# Altium footprint library 电容.PcbLib: 19 footprints (part 2 of 2)
Each footprint in its own frame and in the unit in brackets; x right, y up, seen from the top. Pads: shape width x height; smd on the part's side, far side on the other; paste and mask are expansions set on the pad; w line width, h text height; cw(c..) or ccw(c..) is an arc to the next point about the centre after c.
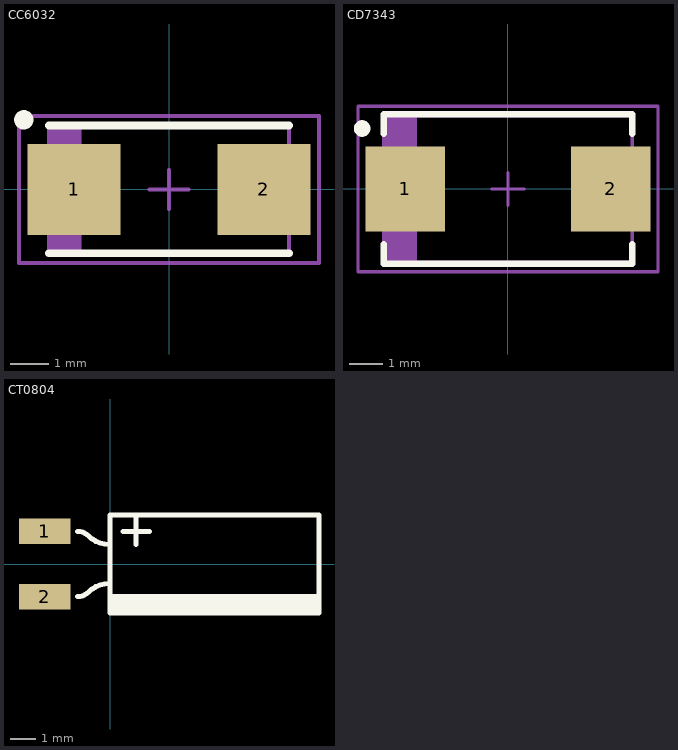
[diagram p1: the footprints below, top view; thin cyan lines are the x and y axes]

## CC6032 [mm] "Molded Capacitor, 2-Leads, Body 6.1x3.3mm, IPC Medium Density"
height 2.8
pads (2):
  rect 2.4x2.35 smd: 1(-2.45,0) 2(2.45,0)
Top Overlay:
  circle w0.25: c-3.75,1.8 r0.125
  lines w0.2: -3.1,-1.65 3.1,-1.65 ; -3.1,1.65 3.1,1.65
Mechanical 13:
  rectangle: -3.1,-1.65 -2.266,1.65
  lines w0.1: -3.1,-1.65 3.1,-1.65 3.1,1.65 -3.1,1.65 -3.1,-1.65
Mechanical 15:
  lines w0.1: -0.5,0 0.5,0 ; 0,-0.5 0,0.5 ; -3.875,-1.9 3.875,-1.9 3.875,1.9 -3.875,1.9 -3.875,-1.9
3D body: height 2.8, standoff 0, extent -3.1,-1.65 3.1,1.65

## CD7343 [mm] "Molded Capacitor, 2-Leads, Body 7.4x4.3mm, IPC Medium Density"
height 3.1
pads (2):
  rect 2.4x2.55 smd: 1(-3.1,0) 2(3.1,0)
Top Overlay:
  circle w0.25: c-4.4,1.825 r0.125
  lines w0.2: -3.75,-1.675 -3.75,-2.25 3.75,-2.25 3.75,-1.675 ; -3.75,1.675 -3.75,2.25 3.75,2.25 3.75,1.675
Mechanical 13:
  rectangle: -3.75,-2.2 -2.741,2.2
  lines w0.1: -3.75,-2.2 -3.75,2.2 3.75,2.2 3.75,-2.2 -3.75,-2.2
Mechanical 15:
  lines w0.1: -0.5,0 0.5,0 ; 0,-0.5 0,0.5 ; -4.525,-2.5 -4.525,2.5 4.525,2.5 4.525,-2.5 -4.525,-2.5
3D body: height 3.1, standoff 0, extent -3.75,-2.2 3.75,2.2

## CT0804 [mm] "8mm×4mm,直插改表贴"
pads (2):
  rect 2x1 smd: 1(-2.54,1.27) 2(-2.54,-1.27)
Top Overlay:
  rectangle: 0,-1.905 8.128,-1.295
  lines w0.2: -1.27,-1.27 ccw(c-1.27,-0.657) -0.836,-1.09 cw(c-0.044,-1.883) -0.044,-0.762 0,-0.762 ; -1.27,1.27 cw(c-1.27,0.657) -0.836,1.09 ccw(c-0.044,1.883) -0.044,0.762 0,0.762 ; 0,-1.27 8.128,-1.27 ; 0.508,1.27 1.524,1.27 ; 1.016,0.762 1.016,1.778 ; 8.128,-1.448 8.128,-1.905 ; 8.128,-1.905 0,-1.905 0,0 0,1.905 8.128,1.905 8.128,-1.905